# Altium footprint library SON35P140X100X40-8N.PcbLib: 1 footprints
Each footprint in its own frame and in the unit in brackets; x right, y up, seen from the top. Pads: shape width x height; smd on the part's side, far side on the other; paste and mask are expansions set on the pad; w line width, h text height; cw(c..) or ccw(c..) is an arc to the next point about the centre after c.
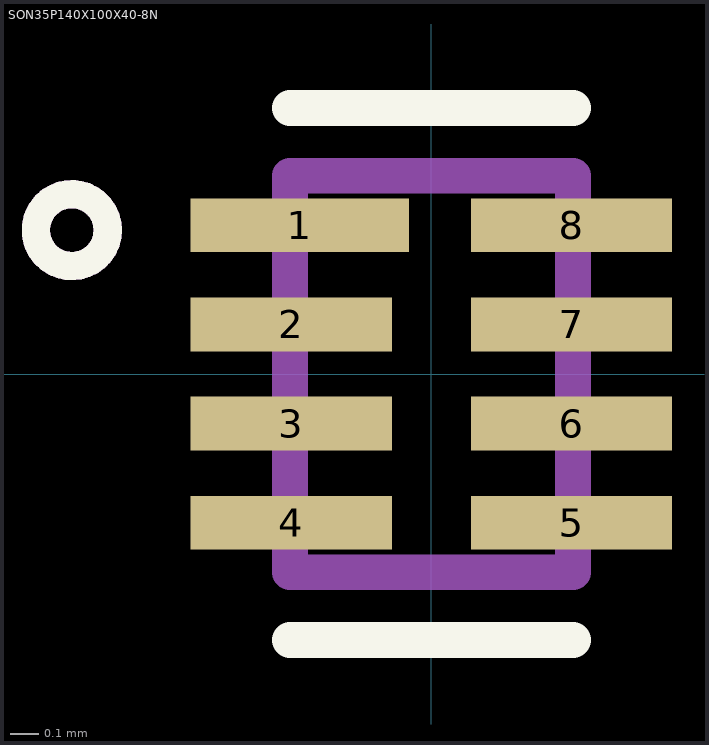
[diagram p0: the footprint, top view; thin cyan lines are the x and y axes]

## SON35P140X100X40-8N [mm]
pads (8):
  rect 0.77x0.19 smd: 1(-0.465,0.525)
  rect 0.71x0.19 smd: 2(-0.495,0.175) 3(-0.495,-0.175) 4(-0.495,-0.525) 5(0.495,-0.525) 6(0.495,-0.175) 7(0.495,0.175) 8(0.495,0.525)
Top Overlay:
  circle w0.1: c-1.27,0.508 r0.127
  lines w0.127: -0.5,-0.94 0.5,-0.94 ; -0.5,0.94 0.5,0.94
Assembly Top:
  circle w0.1: c-1.27,0.508 r0.127
  lines w0.127: -0.5,-0.7 0.5,-0.7 0.5,0.7 -0.5,0.7 -0.5,-0.7
  text ".Designator" at -0.158,1.316 h0.6
3D body "step_temp.STEP": height 0.4, standoff 0, extent -0.5,-0.7 0.5,0.7